# Altium footprint library IRL6297SDPbF.PcbLib: 1 footprints
Each footprint in its own frame and in the unit in brackets; x right, y up, seen from the top. Pads: shape width x height; smd on the part's side, far side on the other; paste and mask are expansions set on the pad; w line width, h text height; cw(c..) or ccw(c..) is an arc to the next point about the centre after c.
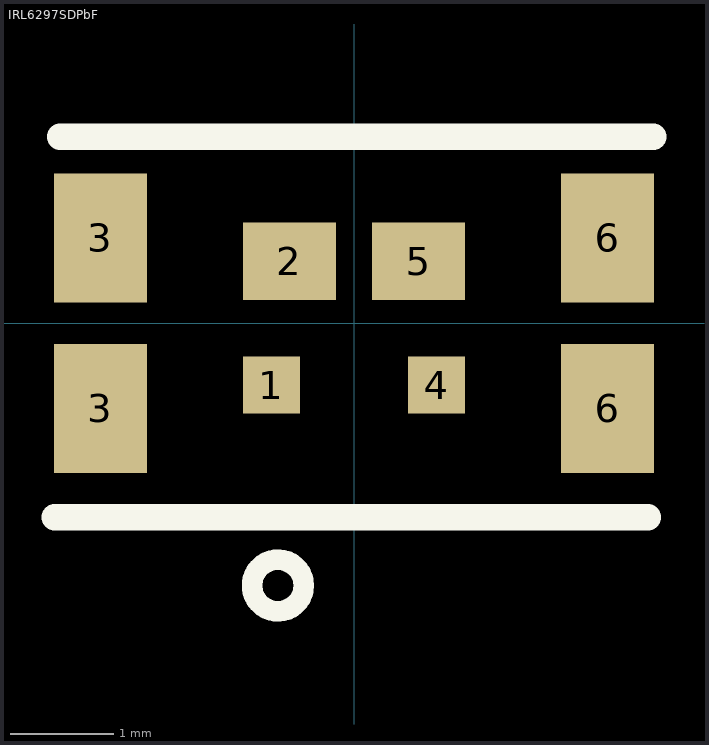
[diagram p0: the footprint, top view; thin cyan lines are the x and y axes]

## IRL6297SDPbF [mm] "Dual N-Channel Power MOSFET for Charge and Discharge Switching"
height 0.7
pads (8):
  rect 0.55x0.55 smd: 1(-0.8,-0.6) 4(0.8,-0.6)
  rect 0.9x0.75 smd: 2(-0.625,0.6) 5(0.625,0.6)
  rect 0.9x1.25 smd: 3(-2.455,-0.825) 3(-2.455,0.825) 6(2.455,-0.825) 6(2.455,0.825)
Top Overlay:
  circle w0.2: c-0.737,-2.54 r0.25
  lines w0.254: -2.896,-1.88 2.845,-1.88 ; -2.845,1.805 2.896,1.805
3D body: height 0.7, standoff 0, extent -2.413,-1.778 2.489,1.778